# Altium footprint library con-wago.PCBLIB: 167 footprints (part 10 of 11)
Each footprint in its own frame and in the unit in brackets; x right, y up, seen from the top. Pads: shape width x height; smd on the part's side, far side on the other; paste and mask are expansions set on the pad; w line width, h text height; cw(c..) or ccw(c..) is an arc to the next point about the centre after c.
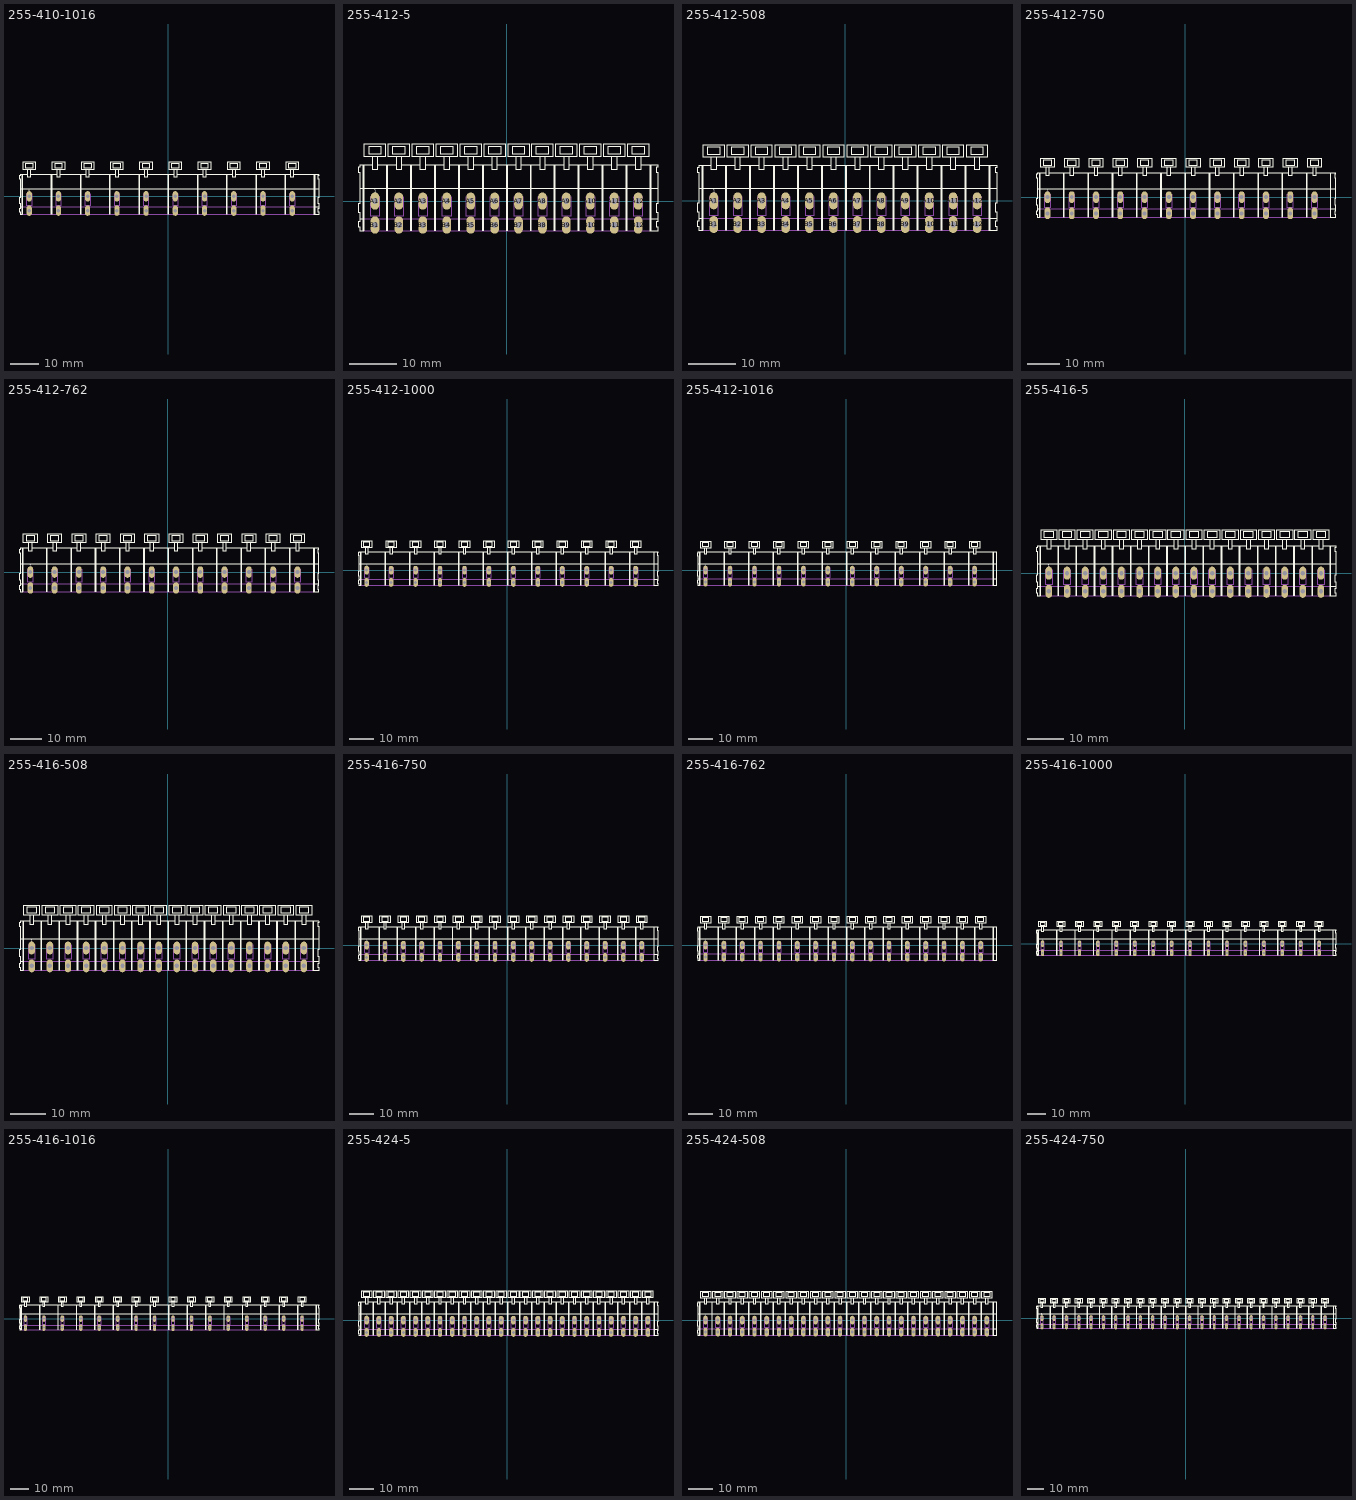
[diagram p9: the footprints below, top view; thin cyan lines are the x and y axes]

## 255-410-1016 [mm]
pads (20):
  oval 1.8x3.6 hole 1.2: A1(-48.26,0) A2(-38.1,0) A3(-27.94,0) A4(-17.78,0) A5(-7.62,0) A6(2.54,0) A7(12.7,0) A8(22.86,0) A9(33.02,0) A10(43.18,0) B1(-48.26,-5) B2(-38.1,-5) B3(-27.94,-5) B4(-17.78,-5) B5(-7.62,-5) B6(2.54,-5) B7(12.7,-5) B8(22.86,-5) B9(33.02,-5) B10(43.18,-5)
Top Overlay:
  drawing of 196 lines, arcs and shapes, not listed
  text "1" at -48.51,1.35 h1.26
Mechanical 16:
  lines w0.203: -50.76,-3.65 50.74,-3.65 ; -50.61,-6.2 50.74,-6.2 ; -49.21,-3.05 -49.21,0.75 -47.26,0.75 -47.26,-3.05 -49.21,-3.05 ; -39.05,-3.05 -39.05,0.75 -37.1,0.75 -37.1,-3.05 -39.05,-3.05 ; -28.89,-3.05 -28.89,0.75 -26.94,0.75 -26.94,-3.05 -28.89,-3.05 ; -18.73,-3.05 -18.73,0.75 -16.78,0.75 -16.78,-3.05 -18.73,-3.05 ; -8.57,-3.05 -8.57,0.75 -6.62,0.75 -6.62,-3.05 -8.57,-3.05 ; 1.59,-3.05 1.59,0.75 3.54,0.75 3.54,-3.05 1.59,-3.05 ; 11.75,-3.05 11.75,0.75 13.7,0.75 13.7,-3.05 11.75,-3.05 ; 21.91,-3.05 21.91,0.75 23.86,0.75 23.86,-3.05 21.91,-3.05 ; 32.07,-3.05 32.07,0.75 34.02,0.75 34.02,-3.05 32.07,-3.05 ; 42.23,-3.05 42.23,0.75 44.18,0.75 44.18,-3.05 42.23,-3.05

## 255-412-5 [mm]
pads (24):
  oval 1.8x3.6 hole 1.2: A1(-27.5,0) A2(-22.5,0) A3(-17.5,0) A4(-12.5,0) A5(-7.5,0) A6(-2.5,0) A7(2.5,0) A8(7.5,0) A9(12.5,0) A10(17.5,0) A11(22.5,0) A12(27.5,0) B1(-27.5,-5) B2(-22.5,-5) B3(-17.5,-5) B4(-12.5,-5) B5(-7.5,-5) B6(-2.5,-5) B7(2.5,-5) B8(7.5,-5) B9(12.5,-5) B10(17.5,-5) B11(22.5,-5) B12(27.5,-5)
Top Overlay:
  drawing of 276 lines, arcs and shapes, not listed
  text "1" at -27.75,1.35 h1.26
Mechanical 16:
  lines w0.203: -30,-3.65 29.9,-3.65 ; -29.85,-6.2 29.9,-6.2 ; -28.45,-3.05 -28.45,0.75 -26.5,0.75 -26.5,-3.05 -28.45,-3.05 ; -23.5,-3.05 -23.5,0.75 -21.5,0.75 -21.5,-3.05 -23.5,-3.05 ; -18.5,-3.05 -18.5,0.75 -16.5,0.75 -16.5,-3.05 -18.5,-3.05 ; -13.5,-3.05 -13.5,0.75 -11.5,0.75 -11.5,-3.05 -13.5,-3.05 ; -8.5,-3.05 -8.5,0.75 -6.5,0.75 -6.5,-3.05 -8.5,-3.05 ; -3.5,-3.05 -3.5,0.75 -1.5,0.75 -1.5,-3.05 -3.5,-3.05 ; 1.5,-3.05 1.5,0.75 3.5,0.75 3.5,-3.05 1.5,-3.05 ; 6.5,-3.05 6.5,0.75 8.5,0.75 8.5,-3.05 6.5,-3.05 ; 11.5,-3.05 11.5,0.75 13.5,0.75 13.5,-3.05 11.5,-3.05 ; 16.5,-3.05 16.5,0.75 18.5,0.75 18.5,-3.05 16.5,-3.05 ; 21.5,-3.05 21.5,0.75 23.5,0.75 23.5,-3.05 21.5,-3.05 ; 26.5,-3.05 26.5,0.75 28.5,0.75 28.5,-3.05 26.5,-3.05

## 255-412-508 [mm]
pads (24):
  oval 1.8x3.6 hole 1.2: A1(-27.94,0) A2(-22.86,0) A3(-17.78,0) A4(-12.7,0) A5(-7.62,0) A6(-2.54,0) A7(2.54,0) A8(7.62,0) A9(12.7,0) A10(17.78,0) A11(22.86,0) A12(27.94,0) B1(-27.94,-5) B2(-22.86,-5) B3(-17.78,-5) B4(-12.7,-5) B5(-7.62,-5) B6(-2.54,-5) B7(2.54,-5) B8(7.62,-5) B9(12.7,-5) B10(17.78,-5) B11(22.86,-5) B12(27.94,-5)
Top Overlay:
  drawing of 230 lines, arcs and shapes, not listed
  text "1" at -28.19,1.35 h1.26
Mechanical 16:
  lines w0.203: -30.44,-3.65 30.42,-3.65 ; -30.29,-6.2 30.42,-6.2 ; -28.89,-3.05 -28.89,0.75 -26.94,0.75 -26.94,-3.05 -28.89,-3.05 ; -23.81,-3.05 -23.81,0.75 -21.86,0.75 -21.86,-3.05 -23.81,-3.05 ; -18.73,-3.05 -18.73,0.75 -16.78,0.75 -16.78,-3.05 -18.73,-3.05 ; -13.65,-3.05 -13.65,0.75 -11.7,0.75 -11.7,-3.05 -13.65,-3.05 ; -8.57,-3.05 -8.57,0.75 -6.62,0.75 -6.62,-3.05 -8.57,-3.05 ; -3.49,-3.05 -3.49,0.75 -1.54,0.75 -1.54,-3.05 -3.49,-3.05 ; 1.59,-3.05 1.59,0.75 3.54,0.75 3.54,-3.05 1.59,-3.05 ; 6.67,-3.05 6.67,0.75 8.62,0.75 8.62,-3.05 6.67,-3.05 ; 11.75,-3.05 11.75,0.75 13.7,0.75 13.7,-3.05 11.75,-3.05 ; 16.83,-3.05 16.83,0.75 18.78,0.75 18.78,-3.05 16.83,-3.05 ; 21.91,-3.05 21.91,0.75 23.86,0.75 23.86,-3.05 21.91,-3.05 ; 26.99,-3.05 26.99,0.75 28.94,0.75 28.94,-3.05 26.99,-3.05

## 255-412-750 [mm]
pads (24):
  oval 1.8x3.6 hole 1.2: A1(-42.5,0) A2(-35,0) A3(-27.5,0) A4(-20,0) A5(-12.5,0) A6(-5,0) A7(2.5,0) A8(10,0) A9(17.5,0) A10(25,0) A11(32.5,0) A12(40,0) B1(-42.5,-5) B2(-35,-5) B3(-27.5,-5) B4(-20,-5) B5(-12.5,-5) B6(-5,-5) B7(2.5,-5) B8(10,-5) B9(17.5,-5) B10(25,-5) B11(32.5,-5) B12(40,-5)
Top Overlay:
  drawing of 227 lines, arcs and shapes, not listed
  text "1" at -42.75,1.35 h1.26
Mechanical 16:
  lines w0.203: -45,-3.65 44.9,-3.65 ; -44.85,-6.2 44.9,-6.2 ; -43.45,-3.05 -43.45,0.75 -41.5,0.75 -41.5,-3.05 -43.45,-3.05 ; -36,-3.05 -36,0.75 -34,0.75 -34,-3.05 -36,-3.05 ; -28.5,-3.05 -28.5,0.75 -26.5,0.75 -26.5,-3.05 -28.5,-3.05 ; -21,-3.05 -21,0.75 -19,0.75 -19,-3.05 -21,-3.05 ; -13.5,-3.05 -13.5,0.75 -11.5,0.75 -11.5,-3.05 -13.5,-3.05 ; -6,-3.05 -6,0.75 -4,0.75 -4,-3.05 -6,-3.05 ; 1.5,-3.05 1.5,0.75 3.5,0.75 3.5,-3.05 1.5,-3.05 ; 9,-3.05 9,0.75 11,0.75 11,-3.05 9,-3.05 ; 16.5,-3.05 16.5,0.75 18.5,0.75 18.5,-3.05 16.5,-3.05 ; 24,-3.05 24,0.75 26,0.75 26,-3.05 24,-3.05 ; 31.5,-3.05 31.5,0.75 33.5,0.75 33.5,-3.05 31.5,-3.05 ; 39,-3.05 39,0.75 41,0.75 41,-3.05 39,-3.05

## 255-412-762 [mm]
pads (24):
  oval 1.8x3.6 hole 1.2: A1(-43.18,0) A2(-35.56,0) A3(-27.94,0) A4(-20.32,0) A5(-12.7,0) A6(-5.08,0) A7(2.54,0) A8(10.16,0) A9(17.78,0) A10(25.4,0) A11(33.02,0) A12(40.64,0) B1(-43.18,-5) B2(-35.56,-5) B3(-27.94,-5) B4(-20.32,-5) B5(-12.7,-5) B6(-5.08,-5) B7(2.54,-5) B8(10.16,-5) B9(17.78,-5) B10(25.4,-5) B11(33.02,-5) B12(40.64,-5)
Top Overlay:
  drawing of 228 lines, arcs and shapes, not listed
  text "1" at -43.43,1.35 h1.26
Mechanical 16:
  lines w0.203: -45.68,-3.65 45.66,-3.65 ; -45.53,-6.2 45.66,-6.2 ; -44.13,-3.05 -44.13,0.75 -42.18,0.75 -42.18,-3.05 -44.13,-3.05 ; -36.51,-3.05 -36.51,0.75 -34.56,0.75 -34.56,-3.05 -36.51,-3.05 ; -28.89,-3.05 -28.89,0.75 -26.94,0.75 -26.94,-3.05 -28.89,-3.05 ; -21.27,-3.05 -21.27,0.75 -19.32,0.75 -19.32,-3.05 -21.27,-3.05 ; -13.65,-3.05 -13.65,0.75 -11.7,0.75 -11.7,-3.05 -13.65,-3.05 ; -6.03,-3.05 -6.03,0.75 -4.08,0.75 -4.08,-3.05 -6.03,-3.05 ; 1.59,-3.05 1.59,0.75 3.54,0.75 3.54,-3.05 1.59,-3.05 ; 9.21,-3.05 9.21,0.75 11.16,0.75 11.16,-3.05 9.21,-3.05 ; 16.83,-3.05 16.83,0.75 18.78,0.75 18.78,-3.05 16.83,-3.05 ; 24.45,-3.05 24.45,0.75 26.4,0.75 26.4,-3.05 24.45,-3.05 ; 32.07,-3.05 32.07,0.75 34.02,0.75 34.02,-3.05 32.07,-3.05 ; 39.69,-3.05 39.69,0.75 41.64,0.75 41.64,-3.05 39.69,-3.05

## 255-412-1000 [mm]
pads (24):
  oval 1.8x3.6 hole 1.2: A1(-57.5,0) A2(-47.5,0) A3(-37.5,0) A4(-27.5,0) A5(-17.5,0) A6(-7.5,0) A7(2.5,0) A8(12.5,0) A9(22.5,0) A10(32.5,0) A11(42.5,0) A12(52.5,0) B1(-57.5,-5) B2(-47.5,-5) B3(-37.5,-5) B4(-27.5,-5) B5(-17.5,-5) B6(-7.5,-5) B7(2.5,-5) B8(12.5,-5) B9(22.5,-5) B10(32.5,-5) B11(42.5,-5) B12(52.5,-5)
Top Overlay:
  drawing of 227 lines, arcs and shapes, not listed
  text "1" at -57.75,1.35 h1.26
Mechanical 16:
  lines w0.203: -60,-3.65 59.9,-3.65 ; -59.85,-6.2 59.9,-6.2 ; -58.45,-3.05 -58.45,0.75 -56.5,0.75 -56.5,-3.05 -58.45,-3.05 ; -48.5,-3.05 -48.5,0.75 -46.5,0.75 -46.5,-3.05 -48.5,-3.05 ; -38.5,-3.05 -38.5,0.75 -36.5,0.75 -36.5,-3.05 -38.5,-3.05 ; -28.5,-3.05 -28.5,0.75 -26.5,0.75 -26.5,-3.05 -28.5,-3.05 ; -18.5,-3.05 -18.5,0.75 -16.5,0.75 -16.5,-3.05 -18.5,-3.05 ; -8.5,-3.05 -8.5,0.75 -6.5,0.75 -6.5,-3.05 -8.5,-3.05 ; 1.5,-3.05 1.5,0.75 3.5,0.75 3.5,-3.05 1.5,-3.05 ; 11.5,-3.05 11.5,0.75 13.5,0.75 13.5,-3.05 11.5,-3.05 ; 21.5,-3.05 21.5,0.75 23.5,0.75 23.5,-3.05 21.5,-3.05 ; 31.5,-3.05 31.5,0.75 33.5,0.75 33.5,-3.05 31.5,-3.05 ; 41.5,-3.05 41.5,0.75 43.5,0.75 43.5,-3.05 41.5,-3.05 ; 51.5,-3.05 51.5,0.75 53.5,0.75 53.5,-3.05 51.5,-3.05

## 255-412-1016 [mm]
pads (24):
  oval 1.8x3.6 hole 1.2: A1(-58.42,0) A2(-48.26,0) A3(-38.1,0) A4(-27.94,0) A5(-17.78,0) A6(-7.62,0) A7(2.54,0) A8(12.7,0) A9(22.86,0) A10(33.02,0) A11(43.18,0) A12(53.34,0) B1(-58.42,-5) B2(-48.26,-5) B3(-38.1,-5) B4(-27.94,-5) B5(-17.78,-5) B6(-7.62,-5) B7(2.54,-5) B8(12.7,-5) B9(22.86,-5) B10(33.02,-5) B11(43.18,-5) B12(53.34,-5)
Top Overlay:
  drawing of 228 lines, arcs and shapes, not listed
  text "1" at -58.67,1.35 h1.26
Mechanical 16:
  lines w0.203: -60.92,-3.65 60.9,-3.65 ; -60.77,-6.2 60.9,-6.2 ; -59.37,-3.05 -59.37,0.75 -57.42,0.75 -57.42,-3.05 -59.37,-3.05 ; -49.21,-3.05 -49.21,0.75 -47.26,0.75 -47.26,-3.05 -49.21,-3.05 ; -39.05,-3.05 -39.05,0.75 -37.1,0.75 -37.1,-3.05 -39.05,-3.05 ; -28.89,-3.05 -28.89,0.75 -26.94,0.75 -26.94,-3.05 -28.89,-3.05 ; -18.73,-3.05 -18.73,0.75 -16.78,0.75 -16.78,-3.05 -18.73,-3.05 ; -8.57,-3.05 -8.57,0.75 -6.62,0.75 -6.62,-3.05 -8.57,-3.05 ; 1.59,-3.05 1.59,0.75 3.54,0.75 3.54,-3.05 1.59,-3.05 ; 11.75,-3.05 11.75,0.75 13.7,0.75 13.7,-3.05 11.75,-3.05 ; 21.91,-3.05 21.91,0.75 23.86,0.75 23.86,-3.05 21.91,-3.05 ; 32.07,-3.05 32.07,0.75 34.02,0.75 34.02,-3.05 32.07,-3.05 ; 42.23,-3.05 42.23,0.75 44.18,0.75 44.18,-3.05 42.23,-3.05 ; 52.39,-3.05 52.39,0.75 54.34,0.75 54.34,-3.05 52.39,-3.05

## 255-416-5 [mm]
pads (32):
  oval 1.8x3.6 hole 1.2: A1(-37.5,0) A2(-32.5,0) A3(-27.5,0) A4(-22.5,0) A5(-17.5,0) A6(-12.5,0) A7(-7.5,0) A8(-2.5,0) A9(2.5,0) A10(7.5,0) A11(12.5,0) A12(17.5,0) A13(22.5,0) A14(27.5,0) A15(32.5,0) A16(37.5,0) B1(-37.5,-5) B2(-32.5,-5) B3(-27.5,-5) B4(-22.5,-5) B5(-17.5,-5) B6(-12.5,-5) B7(-7.5,-5) B8(-2.5,-5) B9(2.5,-5) B10(7.5,-5) B11(12.5,-5) B12(17.5,-5) B13(22.5,-5) B14(27.5,-5) B15(32.5,-5) B16(37.5,-5)
Top Overlay:
  drawing of 356 lines, arcs and shapes, not listed
  text "1" at -37.75,1.35 h1.26
Mechanical 16:
  lines w0.203: -40,-3.65 39.9,-3.65 ; -39.85,-6.2 39.9,-6.2 ; -38.45,-3.05 -38.45,0.75 -36.5,0.75 -36.5,-3.05 -38.45,-3.05 ; -33.5,-3.05 -33.5,0.75 -31.5,0.75 -31.5,-3.05 -33.5,-3.05 ; -28.5,-3.05 -28.5,0.75 -26.5,0.75 -26.5,-3.05 -28.5,-3.05 ; -23.5,-3.05 -23.5,0.75 -21.5,0.75 -21.5,-3.05 -23.5,-3.05 ; -18.5,-3.05 -18.5,0.75 -16.5,0.75 -16.5,-3.05 -18.5,-3.05 ; -13.5,-3.05 -13.5,0.75 -11.5,0.75 -11.5,-3.05 -13.5,-3.05 ; -8.5,-3.05 -8.5,0.75 -6.5,0.75 -6.5,-3.05 -8.5,-3.05 ; -3.5,-3.05 -3.5,0.75 -1.5,0.75 -1.5,-3.05 -3.5,-3.05 ; 1.5,-3.05 1.5,0.75 3.5,0.75 3.5,-3.05 1.5,-3.05 ; 6.5,-3.05 6.5,0.75 8.5,0.75 8.5,-3.05 6.5,-3.05 ; 11.5,-3.05 11.5,0.75 13.5,0.75 13.5,-3.05 11.5,-3.05 ; 16.5,-3.05 16.5,0.75 18.5,0.75 18.5,-3.05 16.5,-3.05 ; 21.5,-3.05 21.5,0.75 23.5,0.75 23.5,-3.05 21.5,-3.05 ; 26.5,-3.05 26.5,0.75 28.5,0.75 28.5,-3.05 26.5,-3.05 ; 31.5,-3.05 31.5,0.75 33.5,0.75 33.5,-3.05 31.5,-3.05 ; 36.5,-3.05 36.5,0.75 38.5,0.75 38.5,-3.05 36.5,-3.05

## 255-416-508 [mm]
pads (32):
  oval 1.8x3.6 hole 1.2: A1(-38.1,0) A2(-33.02,0) A3(-27.94,0) A4(-22.86,0) A5(-17.78,0) A6(-12.7,0) A7(-7.62,0) A8(-2.54,0) A9(2.54,0) A10(7.62,0) A11(12.7,0) A12(17.78,0) A13(22.86,0) A14(27.94,0) A15(33.02,0) A16(38.1,0) B1(-38.1,-5) B2(-33.02,-5) B3(-27.94,-5) B4(-22.86,-5) B5(-17.78,-5) B6(-12.7,-5) B7(-7.62,-5) B8(-2.54,-5) B9(2.54,-5) B10(7.62,-5) B11(12.7,-5) B12(17.78,-5) B13(22.86,-5) B14(27.94,-5) B15(33.02,-5) B16(38.1,-5)
Top Overlay:
  drawing of 294 lines, arcs and shapes, not listed
  text "1" at -38.35,1.35 h1.26
Mechanical 16:
  lines w0.203: -40.6,-3.65 40.58,-3.65 ; -40.45,-6.2 40.58,-6.2 ; -39.05,-3.05 -39.05,0.75 -37.1,0.75 -37.1,-3.05 -39.05,-3.05 ; -33.97,-3.05 -33.97,0.75 -32.02,0.75 -32.02,-3.05 -33.97,-3.05 ; -28.89,-3.05 -28.89,0.75 -26.94,0.75 -26.94,-3.05 -28.89,-3.05 ; -23.81,-3.05 -23.81,0.75 -21.86,0.75 -21.86,-3.05 -23.81,-3.05 ; -18.73,-3.05 -18.73,0.75 -16.78,0.75 -16.78,-3.05 -18.73,-3.05 ; -13.65,-3.05 -13.65,0.75 -11.7,0.75 -11.7,-3.05 -13.65,-3.05 ; -8.57,-3.05 -8.57,0.75 -6.62,0.75 -6.62,-3.05 -8.57,-3.05 ; -3.49,-3.05 -3.49,0.75 -1.54,0.75 -1.54,-3.05 -3.49,-3.05 ; 1.59,-3.05 1.59,0.75 3.54,0.75 3.54,-3.05 1.59,-3.05 ; 6.67,-3.05 6.67,0.75 8.62,0.75 8.62,-3.05 6.67,-3.05 ; 11.75,-3.05 11.75,0.75 13.7,0.75 13.7,-3.05 11.75,-3.05 ; 16.83,-3.05 16.83,0.75 18.78,0.75 18.78,-3.05 16.83,-3.05 ; 21.91,-3.05 21.91,0.75 23.86,0.75 23.86,-3.05 21.91,-3.05 ; 26.99,-3.05 26.99,0.75 28.94,0.75 28.94,-3.05 26.99,-3.05 ; 32.07,-3.05 32.07,0.75 34.02,0.75 34.02,-3.05 32.07,-3.05 ; 37.15,-3.05 37.15,0.75 39.1,0.75 39.1,-3.05 37.15,-3.05

## 255-416-750 [mm]
pads (32):
  oval 1.8x3.6 hole 1.2: A1(-57.5,0) A2(-50,0) A3(-42.5,0) A4(-35,0) A5(-27.5,0) A6(-20,0) A7(-12.5,0) A8(-5,0) A9(2.5,0) A10(10,0) A11(17.5,0) A12(25,0) A13(32.5,0) A14(40,0) A15(47.5,0) A16(55,0) B1(-57.5,-5) B2(-50,-5) B3(-42.5,-5) B4(-35,-5) B5(-27.5,-5) B6(-20,-5) B7(-12.5,-5) B8(-5,-5) B9(2.5,-5) B10(10,-5) B11(17.5,-5) B12(25,-5) B13(32.5,-5) B14(40,-5) B15(47.5,-5) B16(55,-5)
Top Overlay:
  drawing of 291 lines, arcs and shapes, not listed
  text "1" at -57.75,1.35 h1.26
Mechanical 16:
  lines w0.203: -60,-3.65 59.9,-3.65 ; -59.85,-6.2 59.9,-6.2 ; -58.45,-3.05 -58.45,0.75 -56.5,0.75 -56.5,-3.05 -58.45,-3.05 ; -51,-3.05 -51,0.75 -49,0.75 -49,-3.05 -51,-3.05 ; -43.5,-3.05 -43.5,0.75 -41.5,0.75 -41.5,-3.05 -43.5,-3.05 ; -36,-3.05 -36,0.75 -34,0.75 -34,-3.05 -36,-3.05 ; -28.5,-3.05 -28.5,0.75 -26.5,0.75 -26.5,-3.05 -28.5,-3.05 ; -21,-3.05 -21,0.75 -19,0.75 -19,-3.05 -21,-3.05 ; -13.5,-3.05 -13.5,0.75 -11.5,0.75 -11.5,-3.05 -13.5,-3.05 ; -6,-3.05 -6,0.75 -4,0.75 -4,-3.05 -6,-3.05 ; 1.5,-3.05 1.5,0.75 3.5,0.75 3.5,-3.05 1.5,-3.05 ; 9,-3.05 9,0.75 11,0.75 11,-3.05 9,-3.05 ; 16.5,-3.05 16.5,0.75 18.5,0.75 18.5,-3.05 16.5,-3.05 ; 24,-3.05 24,0.75 26,0.75 26,-3.05 24,-3.05 ; 31.5,-3.05 31.5,0.75 33.5,0.75 33.5,-3.05 31.5,-3.05 ; 39,-3.05 39,0.75 41,0.75 41,-3.05 39,-3.05 ; 46.5,-3.05 46.5,0.75 48.5,0.75 48.5,-3.05 46.5,-3.05 ; 54,-3.05 54,0.75 56,0.75 56,-3.05 54,-3.05

## 255-416-762 [mm]
pads (32):
  oval 1.8x3.6 hole 1.2: A1(-58.42,0) A2(-50.8,0) A3(-43.18,0) A4(-35.56,0) A5(-27.94,0) A6(-20.32,0) A7(-12.7,0) A8(-5.08,0) A9(2.54,0) A10(10.16,0) A11(17.78,0) A12(25.4,0) A13(33.02,0) A14(40.64,0) A15(48.26,0) A16(55.88,0) B1(-58.42,-5) B2(-50.8,-5) B3(-43.18,-5) B4(-35.56,-5) B5(-27.94,-5) B6(-20.32,-5) B7(-12.7,-5) B8(-5.08,-5) B9(2.54,-5) B10(10.16,-5) B11(17.78,-5) B12(25.4,-5) B13(33.02,-5) B14(40.64,-5) B15(48.26,-5) B16(55.88,-5)
Top Overlay:
  drawing of 292 lines, arcs and shapes, not listed
  text "1" at -58.67,1.35 h1.26
Mechanical 16:
  lines w0.203: -60.92,-3.65 60.9,-3.65 ; -60.77,-6.2 60.9,-6.2 ; -59.37,-3.05 -59.37,0.75 -57.42,0.75 -57.42,-3.05 -59.37,-3.05 ; -51.75,-3.05 -51.75,0.75 -49.8,0.75 -49.8,-3.05 -51.75,-3.05 ; -44.13,-3.05 -44.13,0.75 -42.18,0.75 -42.18,-3.05 -44.13,-3.05 ; -36.51,-3.05 -36.51,0.75 -34.56,0.75 -34.56,-3.05 -36.51,-3.05 ; -28.89,-3.05 -28.89,0.75 -26.94,0.75 -26.94,-3.05 -28.89,-3.05 ; -21.27,-3.05 -21.27,0.75 -19.32,0.75 -19.32,-3.05 -21.27,-3.05 ; -13.65,-3.05 -13.65,0.75 -11.7,0.75 -11.7,-3.05 -13.65,-3.05 ; -6.03,-3.05 -6.03,0.75 -4.08,0.75 -4.08,-3.05 -6.03,-3.05 ; 1.59,-3.05 1.59,0.75 3.54,0.75 3.54,-3.05 1.59,-3.05 ; 9.21,-3.05 9.21,0.75 11.16,0.75 11.16,-3.05 9.21,-3.05 ; 16.83,-3.05 16.83,0.75 18.78,0.75 18.78,-3.05 16.83,-3.05 ; 24.45,-3.05 24.45,0.75 26.4,0.75 26.4,-3.05 24.45,-3.05 ; 32.07,-3.05 32.07,0.75 34.02,0.75 34.02,-3.05 32.07,-3.05 ; 39.69,-3.05 39.69,0.75 41.64,0.75 41.64,-3.05 39.69,-3.05 ; 47.31,-3.05 47.31,0.75 49.26,0.75 49.26,-3.05 47.31,-3.05 ; 54.93,-3.05 54.93,0.75 56.88,0.75 56.88,-3.05 54.93,-3.05

## 255-416-1000 [mm]
pads (32):
  oval 1.8x3.6 hole 1.2: A1(-77.5,0) A2(-67.5,0) A3(-57.5,0) A4(-47.5,0) A5(-37.5,0) A6(-27.5,0) A7(-17.5,0) A8(-7.5,0) A9(2.5,0) A10(12.5,0) A11(22.5,0) A12(32.5,0) A13(42.5,0) A14(52.5,0) A15(62.5,0) A16(72.5,0) B1(-77.5,-5) B2(-67.5,-5) B3(-57.5,-5) B4(-47.5,-5) B5(-37.5,-5) B6(-27.5,-5) B7(-17.5,-5) B8(-7.5,-5) B9(2.5,-5) B10(12.5,-5) B11(22.5,-5) B12(32.5,-5) B13(42.5,-5) B14(52.5,-5) B15(62.5,-5) B16(72.5,-5)
Top Overlay:
  drawing of 291 lines, arcs and shapes, not listed
  text "1" at -77.75,1.35 h1.26
Mechanical 16:
  lines w0.203: -80,-3.65 79.9,-3.65 ; -79.85,-6.2 79.9,-6.2 ; -78.45,-3.05 -78.45,0.75 -76.5,0.75 -76.5,-3.05 -78.45,-3.05 ; -68.5,-3.05 -68.5,0.75 -66.5,0.75 -66.5,-3.05 -68.5,-3.05 ; -58.5,-3.05 -58.5,0.75 -56.5,0.75 -56.5,-3.05 -58.5,-3.05 ; -48.5,-3.05 -48.5,0.75 -46.5,0.75 -46.5,-3.05 -48.5,-3.05 ; -38.5,-3.05 -38.5,0.75 -36.5,0.75 -36.5,-3.05 -38.5,-3.05 ; -28.5,-3.05 -28.5,0.75 -26.5,0.75 -26.5,-3.05 -28.5,-3.05 ; -18.5,-3.05 -18.5,0.75 -16.5,0.75 -16.5,-3.05 -18.5,-3.05 ; -8.5,-3.05 -8.5,0.75 -6.5,0.75 -6.5,-3.05 -8.5,-3.05 ; 1.5,-3.05 1.5,0.75 3.5,0.75 3.5,-3.05 1.5,-3.05 ; 11.5,-3.05 11.5,0.75 13.5,0.75 13.5,-3.05 11.5,-3.05 ; 21.5,-3.05 21.5,0.75 23.5,0.75 23.5,-3.05 21.5,-3.05 ; 31.5,-3.05 31.5,0.75 33.5,0.75 33.5,-3.05 31.5,-3.05 ; 41.5,-3.05 41.5,0.75 43.5,0.75 43.5,-3.05 41.5,-3.05 ; 51.5,-3.05 51.5,0.75 53.5,0.75 53.5,-3.05 51.5,-3.05 ; 61.5,-3.05 61.5,0.75 63.5,0.75 63.5,-3.05 61.5,-3.05 ; 71.5,-3.05 71.5,0.75 73.5,0.75 73.5,-3.05 71.5,-3.05

## 255-416-1016 [mm]
pads (32):
  oval 1.8x3.6 hole 1.2: A1(-78.74,0) A2(-68.58,0) A3(-58.42,0) A4(-48.26,0) A5(-38.1,0) A6(-27.94,0) A7(-17.78,0) A8(-7.62,0) A9(2.54,0) A10(12.7,0) A11(22.86,0) A12(33.02,0) A13(43.18,0) A14(53.34,0) A15(63.5,0) A16(73.66,0) B1(-78.74,-5) B2(-68.58,-5) B3(-58.42,-5) B4(-48.26,-5) B5(-38.1,-5) B6(-27.94,-5) B7(-17.78,-5) B8(-7.62,-5) B9(2.54,-5) B10(12.7,-5) B11(22.86,-5) B12(33.02,-5) B13(43.18,-5) B14(53.34,-5) B15(63.5,-5) B16(73.66,-5)
Top Overlay:
  drawing of 292 lines, arcs and shapes, not listed
  text "1" at -78.99,1.35 h1.26
Mechanical 16:
  lines w0.203: -81.24,-3.65 81.22,-3.65 ; -81.09,-6.2 81.22,-6.2 ; -79.69,-3.05 -79.69,0.75 -77.74,0.75 -77.74,-3.05 -79.69,-3.05 ; -69.53,-3.05 -69.53,0.75 -67.58,0.75 -67.58,-3.05 -69.53,-3.05 ; -59.37,-3.05 -59.37,0.75 -57.42,0.75 -57.42,-3.05 -59.37,-3.05 ; -49.21,-3.05 -49.21,0.75 -47.26,0.75 -47.26,-3.05 -49.21,-3.05 ; -39.05,-3.05 -39.05,0.75 -37.1,0.75 -37.1,-3.05 -39.05,-3.05 ; -28.89,-3.05 -28.89,0.75 -26.94,0.75 -26.94,-3.05 -28.89,-3.05 ; -18.73,-3.05 -18.73,0.75 -16.78,0.75 -16.78,-3.05 -18.73,-3.05 ; -8.57,-3.05 -8.57,0.75 -6.62,0.75 -6.62,-3.05 -8.57,-3.05 ; 1.59,-3.05 1.59,0.75 3.54,0.75 3.54,-3.05 1.59,-3.05 ; 11.75,-3.05 11.75,0.75 13.7,0.75 13.7,-3.05 11.75,-3.05 ; 21.91,-3.05 21.91,0.75 23.86,0.75 23.86,-3.05 21.91,-3.05 ; 32.07,-3.05 32.07,0.75 34.02,0.75 34.02,-3.05 32.07,-3.05 ; 42.23,-3.05 42.23,0.75 44.18,0.75 44.18,-3.05 42.23,-3.05 ; 52.39,-3.05 52.39,0.75 54.34,0.75 54.34,-3.05 52.39,-3.05 ; 62.55,-3.05 62.55,0.75 64.5,0.75 64.5,-3.05 62.55,-3.05 ; 72.71,-3.05 72.71,0.75 74.66,0.75 74.66,-3.05 72.71,-3.05

## 255-424-5 [mm]
pads (48):
  oval 1.8x3.6 hole 1.2: A1(-57.5,0) A2(-52.5,0) A3(-47.5,0) A4(-42.5,0) A5(-37.5,0) A6(-32.5,0) A7(-27.5,0) A8(-22.5,0) A9(-17.5,0) A10(-12.5,0) A11(-7.5,0) A12(-2.5,0) A13(2.5,0) A14(7.5,0) A15(12.5,0) A16(17.5,0) A17(22.5,0) A18(27.5,0) A19(32.5,0) A20(37.5,0) A21(42.5,0) A22(47.5,0) A23(52.5,0) A24(57.5,0) B1(-57.5,-5) B2(-52.5,-5) B3(-47.5,-5) B4(-42.5,-5) B5(-37.5,-5) B6(-32.5,-5) B7(-27.5,-5) B8(-22.5,-5) B9(-17.5,-5) B10(-12.5,-5) B11(-7.5,-5) B12(-2.5,-5) B13(2.5,-5) B14(7.5,-5) B15(12.5,-5) B16(17.5,-5) B17(22.5,-5) B18(27.5,-5) B19(32.5,-5) B20(37.5,-5) B21(42.5,-5) B22(47.5,-5) B23(52.5,-5) B24(57.5,-5)
Top Overlay:
  drawing of 516 lines, arcs and shapes, not listed
  text "1" at -57.75,1.35 h1.26
Mechanical 16:
  lines w0.203: -60,-3.65 59.9,-3.65 ; -59.85,-6.2 59.9,-6.2 ; -58.45,-3.05 -58.45,0.75 -56.5,0.75 -56.5,-3.05 -58.45,-3.05 ; -53.5,-3.05 -53.5,0.75 -51.5,0.75 -51.5,-3.05 -53.5,-3.05 ; -48.5,-3.05 -48.5,0.75 -46.5,0.75 -46.5,-3.05 -48.5,-3.05 ; -43.5,-3.05 -43.5,0.75 -41.5,0.75 -41.5,-3.05 -43.5,-3.05 ; -38.5,-3.05 -38.5,0.75 -36.5,0.75 -36.5,-3.05 -38.5,-3.05 ; -33.5,-3.05 -33.5,0.75 -31.5,0.75 -31.5,-3.05 -33.5,-3.05 ; -28.5,-3.05 -28.5,0.75 -26.5,0.75 -26.5,-3.05 -28.5,-3.05 ; -23.5,-3.05 -23.5,0.75 -21.5,0.75 -21.5,-3.05 -23.5,-3.05 ; -18.5,-3.05 -18.5,0.75 -16.5,0.75 -16.5,-3.05 -18.5,-3.05 ; -13.5,-3.05 -13.5,0.75 -11.5,0.75 -11.5,-3.05 -13.5,-3.05 ; -8.5,-3.05 -8.5,0.75 -6.5,0.75 -6.5,-3.05 -8.5,-3.05 ; -3.5,-3.05 -3.5,0.75 -1.5,0.75 -1.5,-3.05 -3.5,-3.05 ; 1.5,-3.05 1.5,0.75 3.5,0.75 3.5,-3.05 1.5,-3.05 ; 6.5,-3.05 6.5,0.75 8.5,0.75 8.5,-3.05 6.5,-3.05 ; 11.5,-3.05 11.5,0.75 13.5,0.75 13.5,-3.05 11.5,-3.05 ; 16.5,-3.05 16.5,0.75 18.5,0.75 18.5,-3.05 16.5,-3.05 ; 21.5,-3.05 21.5,0.75 23.5,0.75 23.5,-3.05 21.5,-3.05 ; 26.5,-3.05 26.5,0.75 28.5,0.75 28.5,-3.05 26.5,-3.05 ; 31.5,-3.05 31.5,0.75 33.5,0.75 33.5,-3.05 31.5,-3.05 ; 36.5,-3.05 36.5,0.75 38.5,0.75 38.5,-3.05 36.5,-3.05 ; 41.5,-3.05 41.5,0.75 43.5,0.75 43.5,-3.05 41.5,-3.05 ; 46.5,-3.05 46.5,0.75 48.5,0.75 48.5,-3.05 46.5,-3.05 ; 51.5,-3.05 51.5,0.75 53.5,0.75 53.5,-3.05 51.5,-3.05 ; 56.5,-3.05 56.5,0.75 58.5,0.75 58.5,-3.05 56.5,-3.05

## 255-424-508 [mm]
pads (48):
  oval 1.8x3.6 hole 1.2: A1(-58.42,0) A2(-53.34,0) A3(-48.26,0) A4(-43.18,0) A5(-38.1,0) A6(-33.02,0) A7(-27.94,0) A8(-22.86,0) A9(-17.78,0) A10(-12.7,0) A11(-7.62,0) A12(-2.54,0) A13(2.54,0) A14(7.62,0) A15(12.7,0) A16(17.78,0) A17(22.86,0) A18(27.94,0) A19(33.02,0) A20(38.1,0) A21(43.18,0) A22(48.26,0) A23(53.34,0) A24(58.42,0) B1(-58.42,-5) B2(-53.34,-5) B3(-48.26,-5) B4(-43.18,-5) B5(-38.1,-5) B6(-33.02,-5) B7(-27.94,-5) B8(-22.86,-5) B9(-17.78,-5) B10(-12.7,-5) B11(-7.62,-5) B12(-2.54,-5) B13(2.54,-5) B14(7.62,-5) B15(12.7,-5) B16(17.78,-5) B17(22.86,-5) B18(27.94,-5) B19(33.02,-5) B20(38.1,-5) B21(43.18,-5) B22(48.26,-5) B23(53.34,-5) B24(58.42,-5)
Top Overlay:
  drawing of 422 lines, arcs and shapes, not listed
  text "1" at -58.67,1.35 h1.26
Mechanical 16:
  lines w0.203: -60.92,-3.65 60.9,-3.65 ; -60.77,-6.2 60.9,-6.2 ; -59.37,-3.05 -59.37,0.75 -57.42,0.75 -57.42,-3.05 -59.37,-3.05 ; -54.29,-3.05 -54.29,0.75 -52.34,0.75 -52.34,-3.05 -54.29,-3.05 ; -49.21,-3.05 -49.21,0.75 -47.26,0.75 -47.26,-3.05 -49.21,-3.05 ; -44.13,-3.05 -44.13,0.75 -42.18,0.75 -42.18,-3.05 -44.13,-3.05 ; -39.05,-3.05 -39.05,0.75 -37.1,0.75 -37.1,-3.05 -39.05,-3.05 ; -33.97,-3.05 -33.97,0.75 -32.02,0.75 -32.02,-3.05 -33.97,-3.05 ; -28.89,-3.05 -28.89,0.75 -26.94,0.75 -26.94,-3.05 -28.89,-3.05 ; -23.81,-3.05 -23.81,0.75 -21.86,0.75 -21.86,-3.05 -23.81,-3.05 ; -18.73,-3.05 -18.73,0.75 -16.78,0.75 -16.78,-3.05 -18.73,-3.05 ; -13.65,-3.05 -13.65,0.75 -11.7,0.75 -11.7,-3.05 -13.65,-3.05 ; -8.57,-3.05 -8.57,0.75 -6.62,0.75 -6.62,-3.05 -8.57,-3.05 ; -3.49,-3.05 -3.49,0.75 -1.54,0.75 -1.54,-3.05 -3.49,-3.05 ; 1.59,-3.05 1.59,0.75 3.54,0.75 3.54,-3.05 1.59,-3.05 ; 6.67,-3.05 6.67,0.75 8.62,0.75 8.62,-3.05 6.67,-3.05 ; 11.75,-3.05 11.75,0.75 13.7,0.75 13.7,-3.05 11.75,-3.05 ; 16.83,-3.05 16.83,0.75 18.78,0.75 18.78,-3.05 16.83,-3.05 ; 21.91,-3.05 21.91,0.75 23.86,0.75 23.86,-3.05 21.91,-3.05 ; 26.99,-3.05 26.99,0.75 28.94,0.75 28.94,-3.05 26.99,-3.05 ; 32.07,-3.05 32.07,0.75 34.02,0.75 34.02,-3.05 32.07,-3.05 ; 37.15,-3.05 37.15,0.75 39.1,0.75 39.1,-3.05 37.15,-3.05 ; 42.23,-3.05 42.23,0.75 44.18,0.75 44.18,-3.05 42.23,-3.05 ; 47.31,-3.05 47.31,0.75 49.26,0.75 49.26,-3.05 47.31,-3.05 ; 52.39,-3.05 52.39,0.75 54.34,0.75 54.34,-3.05 52.39,-3.05 ; 57.47,-3.05 57.47,0.75 59.42,0.75 59.42,-3.05 57.47,-3.05

## 255-424-750 [mm]
pads (48):
  oval 1.8x3.6 hole 1.2: A1(-87.5,0) A2(-80,0) A3(-72.5,0) A4(-65,0) A5(-57.5,0) A6(-50,0) A7(-42.5,0) A8(-35,0) A9(-27.5,0) A10(-20,0) A11(-12.5,0) A12(-5,0) A13(2.5,0) A14(10,0) A15(17.5,0) A16(25,0) A17(32.5,0) A18(40,0) A19(47.5,0) A20(55,0) A21(62.5,0) A22(70,0) A23(77.5,0) A24(85,0) B1(-87.5,-5) B2(-80,-5) B3(-72.5,-5) B4(-65,-5) B5(-57.5,-5) B6(-50,-5) B7(-42.5,-5) B8(-35,-5) B9(-27.5,-5) B10(-20,-5) B11(-12.5,-5) B12(-5,-5) B13(2.5,-5) B14(10,-5) B15(17.5,-5) B16(25,-5) B17(32.5,-5) B18(40,-5) B19(47.5,-5) B20(55,-5) B21(62.5,-5) B22(70,-5) B23(77.5,-5) B24(85,-5)
Top Overlay:
  drawing of 419 lines, arcs and shapes, not listed
  text "1" at -87.75,1.35 h1.26
Mechanical 16:
  lines w0.203: -90,-3.65 89.9,-3.65 ; -89.85,-6.2 89.9,-6.2 ; -88.45,-3.05 -88.45,0.75 -86.5,0.75 -86.5,-3.05 -88.45,-3.05 ; -81,-3.05 -81,0.75 -79,0.75 -79,-3.05 -81,-3.05 ; -73.5,-3.05 -73.5,0.75 -71.5,0.75 -71.5,-3.05 -73.5,-3.05 ; -66,-3.05 -66,0.75 -64,0.75 -64,-3.05 -66,-3.05 ; -58.5,-3.05 -58.5,0.75 -56.5,0.75 -56.5,-3.05 -58.5,-3.05 ; -51,-3.05 -51,0.75 -49,0.75 -49,-3.05 -51,-3.05 ; -43.5,-3.05 -43.5,0.75 -41.5,0.75 -41.5,-3.05 -43.5,-3.05 ; -36,-3.05 -36,0.75 -34,0.75 -34,-3.05 -36,-3.05 ; -28.5,-3.05 -28.5,0.75 -26.5,0.75 -26.5,-3.05 -28.5,-3.05 ; -21,-3.05 -21,0.75 -19,0.75 -19,-3.05 -21,-3.05 ; -13.5,-3.05 -13.5,0.75 -11.5,0.75 -11.5,-3.05 -13.5,-3.05 ; -6,-3.05 -6,0.75 -4,0.75 -4,-3.05 -6,-3.05 ; 1.5,-3.05 1.5,0.75 3.5,0.75 3.5,-3.05 1.5,-3.05 ; 9,-3.05 9,0.75 11,0.75 11,-3.05 9,-3.05 ; 16.5,-3.05 16.5,0.75 18.5,0.75 18.5,-3.05 16.5,-3.05 ; 24,-3.05 24,0.75 26,0.75 26,-3.05 24,-3.05 ; 31.5,-3.05 31.5,0.75 33.5,0.75 33.5,-3.05 31.5,-3.05 ; 39,-3.05 39,0.75 41,0.75 41,-3.05 39,-3.05 ; 46.5,-3.05 46.5,0.75 48.5,0.75 48.5,-3.05 46.5,-3.05 ; 54,-3.05 54,0.75 56,0.75 56,-3.05 54,-3.05 ; 61.5,-3.05 61.5,0.75 63.5,0.75 63.5,-3.05 61.5,-3.05 ; 69,-3.05 69,0.75 71,0.75 71,-3.05 69,-3.05 ; 76.5,-3.05 76.5,0.75 78.5,0.75 78.5,-3.05 76.5,-3.05 ; 84,-3.05 84,0.75 86,0.75 86,-3.05 84,-3.05